# Altium footprint library PCB - Oscillators - ECX-53Q.PcbLib: 1 footprints
Each footprint in its own frame and in the unit in brackets; x right, y up, seen from the top. Pads: shape width x height; smd on the part's side, far side on the other; paste and mask are expansions set on the pad; w line width, h text height; cw(c..) or ccw(c..) is an arc to the next point about the centre after c.
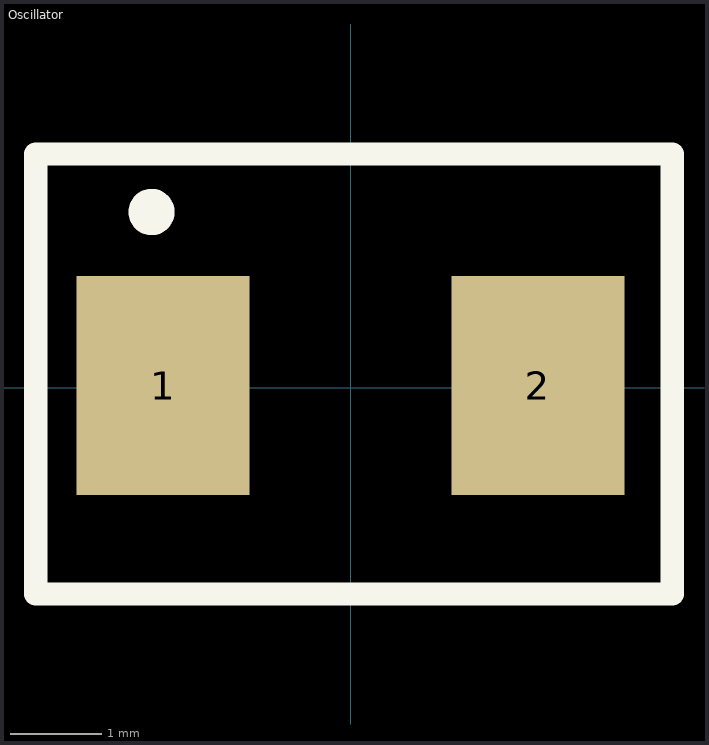
[diagram p0: the footprint, top view; thin cyan lines are the x and y axes]

## Oscillator [mm]
pads (2):
  rect 1.9x2.4 smd: 1(-2.057,0.025) 2(2.057,0.025)
Top Overlay:
  circle w0.254: c-2.184,1.93 r0.127
  lines w0.254: -3.454,-2.261 3.531,-2.261 3.531,2.565 -3.454,2.565 -3.454,-2.261
3D body: height 1.1, standoff 0, extent -2.54,-1.587 2.54,1.588